# EAGLE library part CD4021B_D_16 (library cyberhedz)
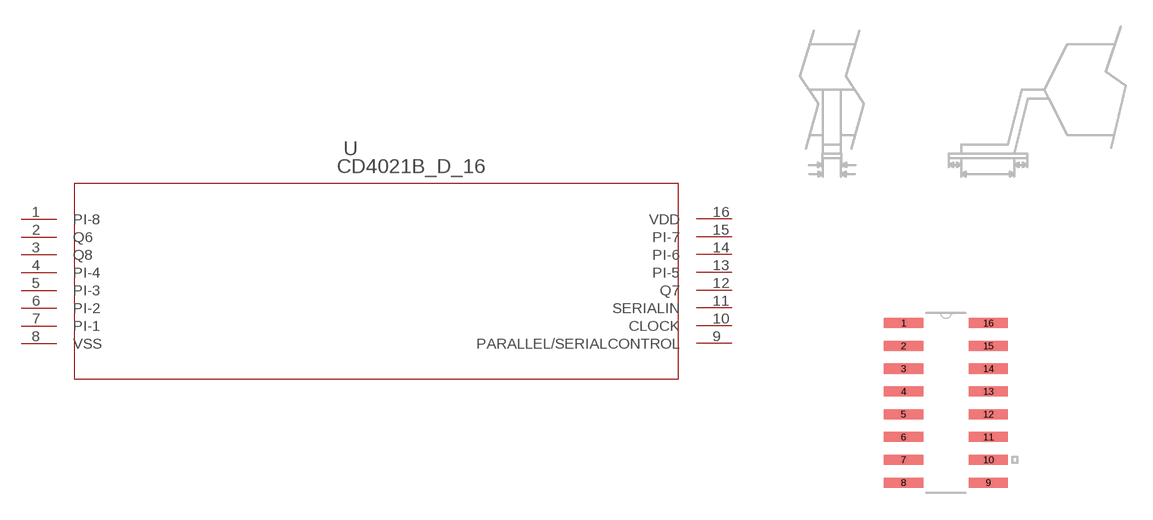
[diagram p6: symbol with the pads of D16; footprint D16]

Designator prefix U

## CD4021B_D_16 (DATASHEETURL: http://www.ti.com/lit/gpn/CD4021B; DESCRIPTION: CMOS 8-Stage Static Shift Register; FAMILY_NAME: SHIFT REGISTER; GENERIC_PART_NUMBER: CD4021B; INDUSTRY_STD_PKG_TYPE: SOIC; MANUFACTURER: Texas Instruments; PACKAGE_DESIGNATOR: D; PIN_COUNT: 16)  [D16]
1  PI-8  pas
2  Q6  pas
3  Q8  pas
4  PI-4  pas
5  PI-3  pas
6  PI-2  pas
7  PI-1  pas
8  VSS  pwr
9  PARALLEL/SERIALCONTROL  pas
10  CLOCK  pas
11  SERIALIN  in
12  Q7  pas
13  PI-5  pas
14  PI-6  pas
15  PI-7  pas
16  VDD  pwr

## Footprint D16 (pad centres in mm)
smd 2.184 x 0.559: 1 -2.362,4.445; 2 -2.362,3.175; 3 -2.362,1.905; 4 -2.362,0.635; 5 -2.362,-0.635; 6 -2.362,-1.905; 7 -2.362,-3.175; 8 -2.362,-4.445; 9 2.362,-4.445; 10 2.362,-3.175; 11 2.362,-1.905; 12 2.362,-0.635; 13 2.362,0.635; 14 2.362,1.905; 15 2.362,3.175; 16 2.362,4.445